# Altium footprint library 3p5mm_JACK_HOLE.PcbLib: 1 footprints
Each footprint in its own frame and in the unit in brackets; x right, y up, seen from the top. Pads: shape width x height; smd on the part's side, far side on the other; paste and mask are expansions set on the pad; w line width, h text height; cw(c..) or ccw(c..) is an arc to the next point about the centre after c.
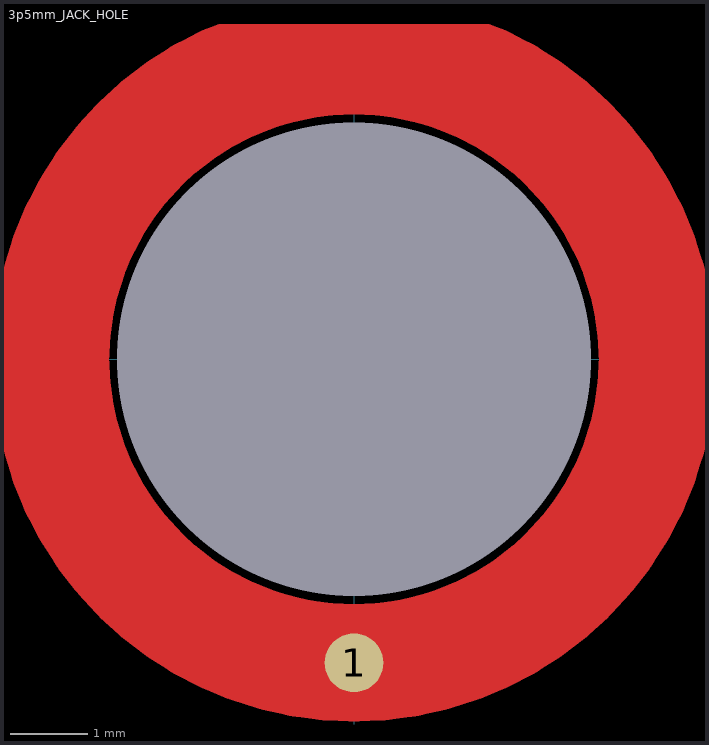
[diagram p0: the footprint, top view; thin cyan lines are the x and y axes]

## 3p5mm_JACK_HOLE [mil]
pads (2):
  round 0 hole 242: 0(0,0)
  round 30 smd: 1(0,-155)
Top Layer:
  circle w60: c0,0 r155
Top Solder:
  circle w60: c0,0 r155
  text "'.Designator'" at -270.81,243.07 h120